# Altium schematic symbol library AluminumCapacitors (PSLP).SchLib: 3 symbols
Pins are listed as number, name and electrical type; pins without a type are passive.

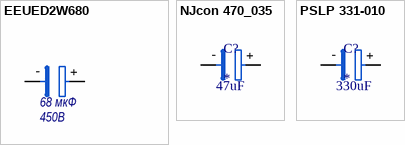
[diagram p0: symbols EEUED2W680 to PSLP 331-010]

## EEUED2W680
designator *  value 68 мкФ  ValueI: 450В
footprint EEUED2W680
pins: 1 +, 2 +
text: -

## NJcon 470_035
designator C?  value 47uF
NJcon 470_035 10X6.13mm, 47uF, 35V; Tolerance: ±20 %; Temperature range: -55 to +105 °C; Voltage: 35V
footprint Case 10*13
pins: 1 +, 2 +
text: -

## PSLP 331-010
designator C?  value 330uF
Wurth PSLP 331-010 6.6X6.6X7.7 mm, 330uF, 10V; Tolerance: ±20 %; Temperature range: -55 to +105 °C; Voltage: 10V
footprint PSLP 6.6x6.6x7.7mm
pins: 1 +, 2 +
text: -